# Altium schematic symbol library SHT30-DIS-F-2.5KS.SchLib: 1 symbol
Pins are listed as number, name and electrical type; pins without a type are passive.

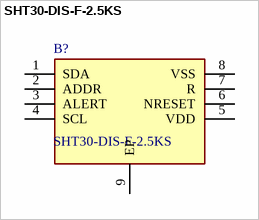
[diagram p0: symbol SHT30-DIS-F-2.5KS]

## SHT30-DIS-F-2.5KS
designator B?
Humidity and Temperature Sensor; Manufacturer_Name: Sensirion; Geometry.Height: 1mm; Manufacturer_Part_Number: SHT30-DIS-F-2.5KS; Mouser Part Number: *; Mouser Price/Stock: *; Arrow Part Number: SHT30-DIS-F-2.5KS; Arrow Price/Stock: https://www.arrow.com/en/products/sht30-dis-f2.5ks/sensirion-ag?region=nac; Datasheet Link: https://static6.arrow.com/aropdfconversion/a14bfadde927169fc46d3a4a474fa60e1ffc5e38/sensirion_humidity_sensors_sht3x_datasheet_digital.pdf
footprint SON50P250X250X100-9N-D
pins: 1 SDA, 2 ADDR, 3 ALERT, 4 SCL, 5 VDD, 6 NRESET, 7 R, 8 VSS, 9 EP